# Altium schematic symbol library TeConnectivity.SchLib: 9 symbols
Pins are listed as number, name and electrical type; pins without a type are passive.

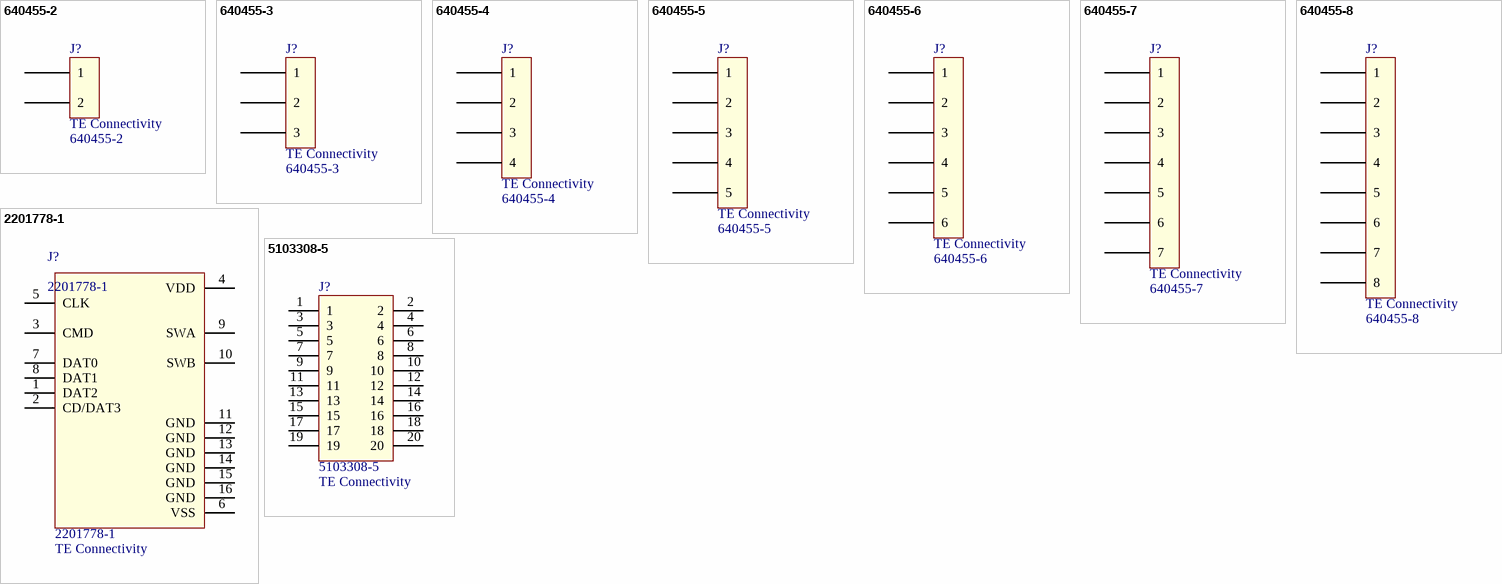
[diagram p0: symbols 640455-2 to 5103308-5]

## 640455-2
designator J?  Manufacturer: TE Connectivity  (hidden comment: 640455-2)
CONN HEADER RTANG 2POS .100 TIN; Mating Conn: 1375820-2; Supplier 1: Digi-Key; Supplier Part Number 1: A19450-ND; Supplier 2: Mouser; Supplier Part Number 2: 571-6404552; PartNumber: 640455-2
footprint TE-640455-2 (CONN HEADER RTANG 2POS .100 TIN)
pins: 1, 2

## 640455-3
designator J?  Manufacturer: TE Connectivity  (hidden comment: 640455-3)
CONN HEADER RTANG 3POS .100 TIN; Mating Conn: 1375820-3; Supplier 1: Digi-Key; Supplier Part Number 1: A19451-ND; Supplier 2: Mouser; Supplier Part Number 2: 571-6404553; PartNumber: 640455-3
footprint TE-640455-3 (CONN HEADER RTANG 3POS .100 TIN)
pins: 1, 2, 3

## 640455-4
designator J?  Manufacturer: TE Connectivity  (hidden comment: 640455-4)
CONN HEADER RTANG 4POS .100 TIN; Mating Conn: 1375820-4; Supplier 1: Digi-Key; Supplier Part Number 1: A19452-ND; Supplier 2: Mouser; Supplier Part Number 2: 571-6404554; PartNumber: 640455-4
footprint TE-640455-4 (CONN HEADER RTANG 4POS .100 TIN)
pins: 1, 2, 3, 4

## 640455-5
designator J?  Manufacturer: TE Connectivity  (hidden comment: 640455-5)
CONN HEADER RTANG 5POS .100 TIN; Mating Conn: 1375820-5; Supplier 1: Digi-Key; Supplier 2: Mouser; Supplier Part Number 1: A19453-ND; Supplier Part Number 2: 571-6404555; PartNumber: 640455-5
footprint TE-640455-5 (CONN HEADER RTANG 5POS .100 TIN)
pins: 1, 2, 3, 4, 5

## 640455-6
designator J?  Manufacturer: TE Connectivity  (hidden comment: 640455-6)
CONN HEADER RTANG 6POS .100 TIN; Mating Conn: 1375820-6; Supplier 1: Digi-Key; Supplier Part Number 1: A19454-ND; Supplier 2: Mouser; Supplier Part Number 2: 571-6404556; PartNumber: 640455-6
footprint TE-640455-6 (CONN HEADER RTANG 6POS .100 TIN)
pins: 1, 2, 3, 4, 5, 6

## 640455-7
designator J?  Manufacturer: TE Connectivity  (hidden comment: 640455-7)
CONN HEADER RTANG 7POS .100 TIN; Mating Conn: 1375820-7; Supplier 1: Digi-Key; Supplier 2: Mouser; Supplier Part Number 1: A19455-ND; Supplier Part Number 2: 571-640455-7; PartNumber: 640455-7
footprint TE-640455-7 (CONN HEADER RTANG 2POS .100 TIN)
pins: 1, 2, 3, 4, 5, 6, 7

## 640455-8
designator J?  Manufacturer: TE Connectivity  (hidden comment: 640455-8)
CONN HEADER RTANG 8POS .100 TIN; Mating Conn: 1375820-8; PartNumber: 640455-8
footprint TE-640455-8 (CONN HEADER RTANG 8POS .100 TIN)
pins: 1, 2, 3, 4, 5, 6, 7, 8

## 2201778-1
designator J?  Manufacturer: TE Connectivity
Conn Memory Card RCP 8 POS 1.1mm Solder RA SMD 0.5A/Contact T/R; PartNumber: 2201778-1
footprint TE_2201778-1
pins: 1 DAT2 (power), 2 CD/DAT3 (power), 3 CMD (power), 4 VDD (power), 5 CLK (power), 6 VSS (power), 7 DAT0 (power), 8 DAT1 (power), 9 SWA, 10 SWB, 11 GND (power), 12 GND (power), 13 GND (power), 14 GND (power), 15 GND (power), 16 GND (power)

## 5103308-5
designator J?  Manufacturer: TE Connectivity  (hidden comment: 5103308-5)
CONN HEADER VERT 20POS 2.54MM; PartNumber: 5103308-5
footprint TYCO_5103309-2
footprint TE-5103308-5
pins: 1, 2, 3, 4, 5, 6, 7, 8, 9, 10, 11, 12, 13, 14, 15, 16, 17, 18, 19, 20